# Altium schematic symbol library Capasitors.SchLib: 2 symbols
Pins are listed as number, name and electrical type; pins without a type are passive.

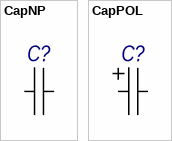
[diagram p0: symbols CapNP to CapPOL]

## CapNP
designator C?
pins: 1, 2

## CapPOL
designator C?
pins: 1, 2